# Altium footprint library QFN-14_3x4x05P.PcbLib: 1 footprints
Each footprint in its own frame and in the unit in brackets; x right, y up, seen from the top. Pads: shape width x height; smd on the part's side, far side on the other; paste and mask are expansions set on the pad; w line width, h text height; cw(c..) or ccw(c..) is an arc to the next point about the centre after c.
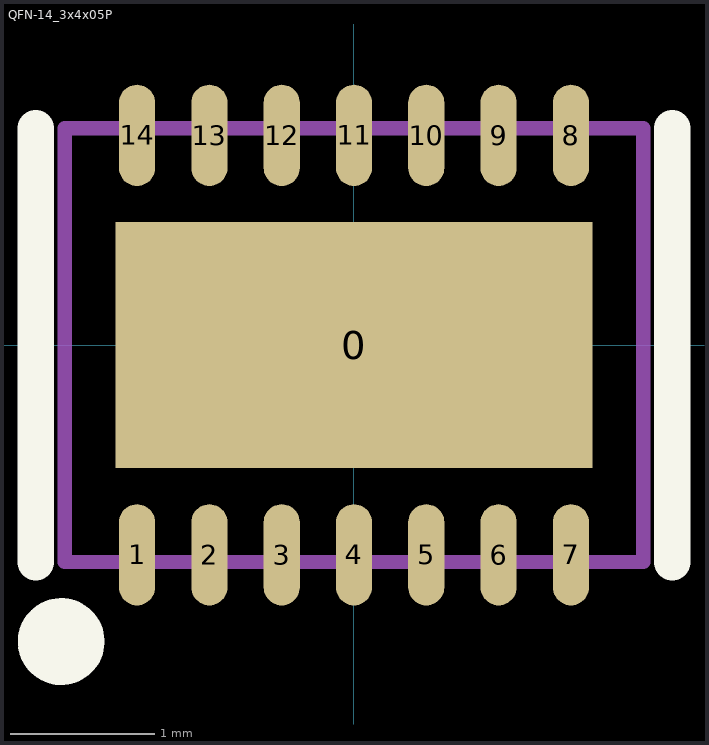
[diagram p0: the footprint, top view; thin cyan lines are the x and y axes]

## QFN-14_3x4x05P [mm]
pads (15):
  rect 3.3x1.7 smd mask+0.051: 0(0,0)
  oval 0.25x0.7 smd mask+0.051: 1(-1.5,-1.45) 2(-1,-1.45) 3(-0.5,-1.45) 4(0,-1.45) 5(0.5,-1.45) 6(1,-1.45) 7(1.5,-1.45) 8(1.5,1.45) 9(1,1.45) 10(0.5,1.45) 11(0,1.45) 12(-0.5,1.45) 13(-1,1.45) 14(-1.5,1.45)
Top Overlay:
  circle w0.3: c-2.025,-2.05 r0.15
  lines w0.254: -2.2,-1.5 -2.2,1.5 ; 2.2,-1.5 2.2,1.5
Mechanical 13:
  lines w0.1: -2,-1.5 2,-1.5 2,1.5 -2,1.5 -2,-1.5